# Altium footprint library MODULE_Test.PcbLib: 10 footprints
Each footprint in its own frame and in the unit in brackets; x right, y up, seen from the top. Pads: shape width x height; smd on the part's side, far side on the other; paste and mask are expansions set on the pad; w line width, h text height; cw(c..) or ccw(c..) is an arc to the next point about the centre after c.
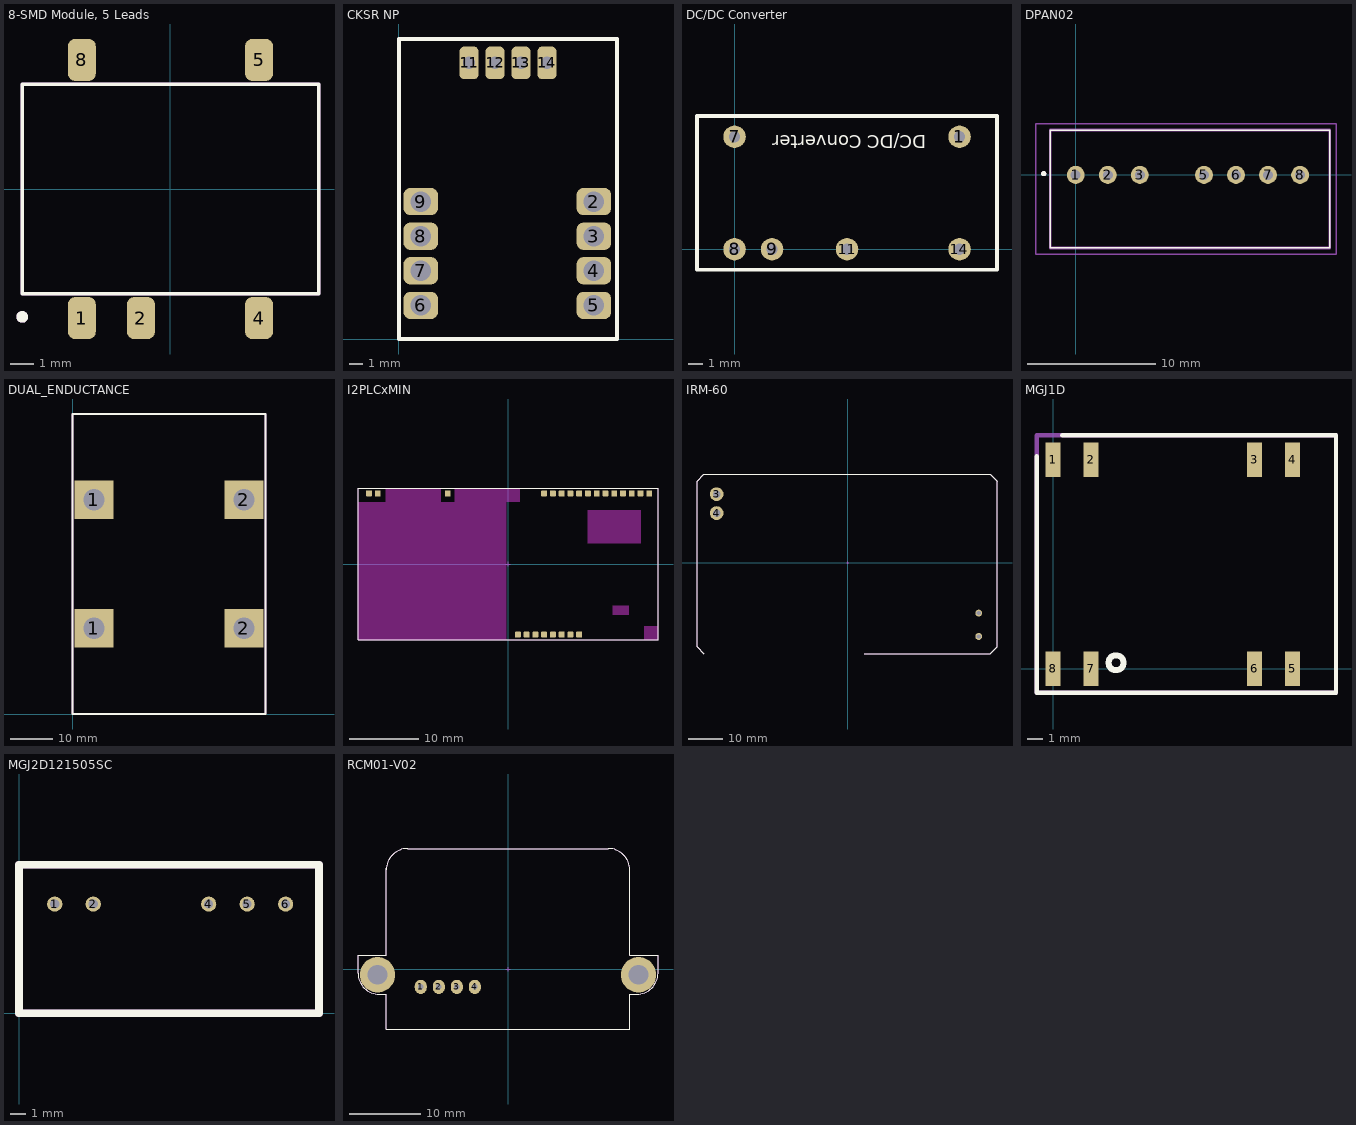
[diagram p0: the footprints below, top view; thin cyan lines are the x and y axes]

## 8-SMD Module, 5 Leads [mm]
pads (5):
  rrect50% 1.2x1.8 smd mask+0.05: 1(-3.81,-5.55) 2(-1.27,-5.55) 4(3.81,-5.55) 5(3.81,5.55) 8(-3.81,5.55)
Top Overlay:
  circle w0.25: c-6.375,-5.5 r0.125
  lines w0.15: -6.375,-4.5 6.375,-4.5 6.375,4.5 -6.375,4.5 -6.375,-4.5
Mechanical 29:
  circle w0.25: c-6.375,-5.5 r0.125
  lines w0.15: -6.375,-4.5 -6.375,4.5 6.375,4.5 6.375,-4.5 -6.375,-4.5
  text "'.Designator'" at -4.841,-0.453 h2
3D body "R1SE-0505.stp": height 7.01, standoff 0, extent -6.375,-5.55 6.375,5.55

## CKSR NP [mm]
pads (12):
  rrect50% 2.54x2 hole 1.5: 2(14.3,10.08) 3(14.3,7.54) 4(14.3,5) 5(14.3,2.46) 6(1.6,2.46) 7(1.6,5) 8(1.6,7.54) 9(1.6,10.08)
  rrect50% 1.4x2.4 hole 0.9: 11(5.142,20.25) 12(7.047,20.25) 13(8.952,20.25) 14(10.857,20.25)
Top Overlay:
  lines w0.3: 0,0 16,0 16,22 0,22 0,0
Mechanical 29:
  lines w0.3: 0,0 0,22 16,22 16,0 0,0
  text "'.Designator'" at 8.579,2.442 h3
3D body "CKSR 6-15-25-50-NP_Blackbox.stp": height 17.1, standoff -2.9, extent 1.1,-0.155 14.867,21.755

## DC/DC Converter [mil] "+12V/-12V"
height 250
pads (6):
  round 60 hole 30: 1(600,300) 7(0,300) 8(0,0) 9(100,0) 11(300,0) 14(600,0)
Top Overlay:
  lines w10: -100,-55 -100,355 700,355 700,-55 -100,-55
  text "DC/DC Converter" at 511.5,316.22 h60
Mechanical 29:
  text "'.Designator'" at 107,144.33 h40
3D body "mps_dcdc_mea1d_dc_a.step": height 269.01, standoff -160.91, extent -83.86,-42.91 683.86,342.91

## DPAN02 [mm]
pads (7):
  round 1.4 hole 0.78: 1(0,0) 2(2.5,0) 3(5,0) 5(10,0) 6(12.5,0) 7(15,0) 8(17.5,0)
Top Overlay:
  lines w0.1: -2,-5.7 19.8,-5.7 19.8,3.5 -2,3.5 -2,-5.7
  lines w0.2: -2.5,0 ccw(c-2.5,0.1) -2.5,0.2 ccw(c-2.5,0.1) -2.5,0
Mechanical 13:
  lines w0.2: -2,-5.7 19.8,-5.7 19.8,3.5 -2,3.5 -2,-5.7
Mechanical 15:
  lines w0.1: -3.1,-6.2 20.3,-6.2 20.3,4 -3.1,4 -3.1,-6.2
Mechanical 29:
  lines w0.1: -2,-5.7 19.8,-5.7 19.8,3.5 -2,3.5 -2,-5.7
  lines w0.2: -2.5,0 ccw(c-2.5,0.1) -2.5,0.2 ccw(c-2.5,0.1) -2.5,0
  text "'.Designator'" at 3.976,-1.73 h2.03
3D body "DPAN02A-15.stp": height 11.1, standoff -5, extent -2,-5.7 19.8,3.5

## DUAL_ENDUCTANCE [mm]
pads (4):
  rect 9x9 hole 5: 1(5,20) 1(5,50) 2(40,20) 2(40,50)
Top Overlay:
  lines w0.5: 0,0 45,0 45,70 0,70 0,0
Mechanical 29:
  lines w0.5: 0,0 0,70 45,70 45,0 0,0
  text "'.Designator'" at 24.161,22.7 h5

## I2PLCxMIN [mm]
pads (24):
  rrect25% 0.85x0.85 smd: 1(20.48,10.235) 2(19.21,10.235) 3(17.94,10.235) 4(16.67,10.235) 5(15.4,10.235) 6(14.13,10.235) 7(12.86,10.235) 8(11.59,10.235) 9(10.32,10.235) 10(9.05,10.235) 11(7.78,10.235) 12(6.51,10.235) 13(5.24,10.235) 15(-8.73,10.235) 16(-18.89,10.235) 17(-20.16,10.235) 18(1.43,-10.235) 19(2.7,-10.235) 20(3.97,-10.235) 21(5.24,-10.235) 22(6.51,-10.235) 23(7.78,-10.235) 24(9.05,-10.235) 25(10.32,-10.235)
Top Overlay:
  lines w0.15: -21.75,-11 21.75,-11 21.75,11 -21.75,11 -21.75,-11
Keep-Out Layer:
  rectangle: 19.75,-11 21.75,-9
  rectangle: 15.15,-7.4 17.55,-6
  rectangle: 11.55,3 19.25,7.8
  rectangle: -21.75,-11 -0.25,9
  rectangle: -7.75,9 1.75,11
  rectangle: -17.75,9 -9.75,11
Mechanical 15:
  lines w0.1: -0.3,0 0.3,0 ; 0,-0.3 0,0.3
Mechanical 29:
  lines w0.15: -21.75,-11 -21.75,11 21.75,11 21.75,-11 -21.75,-11
  text "'.Designator'" at -6.143,-0.574 h2.54
3D body: height 6.5, standoff 0, extent -21.75,-11 21.75,11

## IRM-60 [mm]
pads (4):
  round 2 hole 1.2 mask+0.05: 1(38,-21.375) 2(38,-14.625)
  round 4 hole 2.2 mask+0.05: 3(-38,19.875) 4(-38,14.375)
Top Overlay:
  lines w0.15: -41.7,-26.375 -43.7,-24.375 -43.7,23.625 -41.7,25.625 41.3,25.625 43.3,23.625 43.3,-24.375 41.3,-26.375 4.775,-26.375
Mechanical 15:
  lines w0.1: -0.3,0 0.3,0 ; 0,-0.3 0,0.3
Mechanical 29:
  lines w0.15: -41.7,-26.375 -43.7,-24.375 -43.7,23.625 -41.7,25.625 41.3,25.625 43.3,23.625 43.3,-24.375 41.3,-26.375 4.775,-26.375
  text "'.Designator'" at -12.1,-1.132 h5
3D body "IRM-45.STEP": height 29.51, standoff -3.49, extent -43.7,-26.375 43.3,25.625

## MGJ1D [mm]
pads (8):
  rect 1x2.3 smd: 1(0,13.97) 2(2.54,13.97) 3(13.46,13.97) 4(16,13.97) 5(16,0) 6(13.46,0) 7(2.54,0) 8(0,0)
Top Overlay:
  circle w0.4: c4.2,0.4 r0.5
  lines w0.3: -1.1,14.2 -1.1,-1.6 18.9,-1.6 18.9,15.6 0.6,15.6
Mechanical 29:
  lines w0.3: -1.1,-1.6 18.9,-1.6 18.9,15.6 -1.1,15.6 -1.1,-1.6
  text "'.Designator'" at 2.757,6.326 h2.54
3D body "mps_dcdc_mgj1d_mpc_a.step": height 4.51, standoff 0.1, extent -1.1,-0.493 18.839,14.493

## MGJ2D121505SC [mm]
pads (5):
  round 1 hole 0.6: 1(2.36,7.2) 2(4.9,7.2) 4(12.52,7.2) 5(15.06,7.2) 6(17.6,7.2)
Top Overlay:
  lines w0.5: 0,0 0,9.8 19.8,9.8 19.8,0 0,0
Mechanical 29:
  lines w0.5: 0,0 0,9.8 19.8,9.8 19.8,0 0,0
  text "'.Designator'" at 3.757,4.426 h2.54
3D body "mps_dcdc_mgj2d_sc_a.step": height 13.6, standoff -3, extent 0.08,-0.12 19.58,9.7

## RCM01-V02 [mm]
pads (6):
  oval 1.7x2 hole 0.8 mask+0.05: 1(-12.3,-2.5) 2(-9.76,-2.5) 3(-7.22,-2.5) 4(-4.68,-2.5)
  round 5 hole 2.8 mask+0.05: ""(-18.4,-0.8) ""(18.4,-0.8)
Top Overlay:
  lines w0.15: -21.15,1.95 -21.15,-0.55 ccw(c-18.15,-0.55) -18.15,-3.55 -17.15,-3.55 -17.15,-8.5 0,-8.5 17.15,-8.5 17.15,-3.55 18.15,-3.55 ccw(c18.15,-0.55) 21.15,-0.55 21.15,1.95 ; -21.1,1.95 -17.15,1.95 -17.15,14.25 ; -17.15,14 cw(c-14.15,14) -14.15,17 0,17 14.15,17 cw(c14.15,14) 17.15,14 ; 17.15,14.25 17.15,1.95 21.1,1.95
Mechanical 15:
  lines w0.1: -0.3,0 0.3,0 ; 0,-0.3 0,0.3
Mechanical 29:
  lines w0.15: -21.15,1.95 -21.15,-0.55 ccw(c-18.15,-0.55) -18.15,-3.55 -17.15,-3.55 -17.15,-8.5 0,-8.5 17.15,-8.5 17.15,-3.55 18.15,-3.55 ccw(c18.15,-0.55) 21.15,-0.55 21.15,1.95 ; -21.1,1.95 -17.15,1.95 -17.15,14.25 ; -17.15,14 cw(c-14.15,14) -14.15,17 0,17 14.15,17 cw(c14.15,14) 17.15,14 ; 17.15,14.25 17.15,1.95 21.1,1.95
  text "'.Designator'" at -6.143,-0.574 h2.54
3D body "RCM01-02.step": height 44.33, standoff -4.63, extent -20.597,-11.033 20.597,17.433